# Altium footprint library Diodes Incorporated-LDO Regulator.PcbLib: 4 footprints
Each footprint in its own frame and in the unit in brackets; x right, y up, seen from the top. Pads: shape width x height; smd on the part's side, far side on the other; paste and mask are expansions set on the pad; w line width, h text height; cw(c..) or ccw(c..) is an arc to the next point about the centre after c.
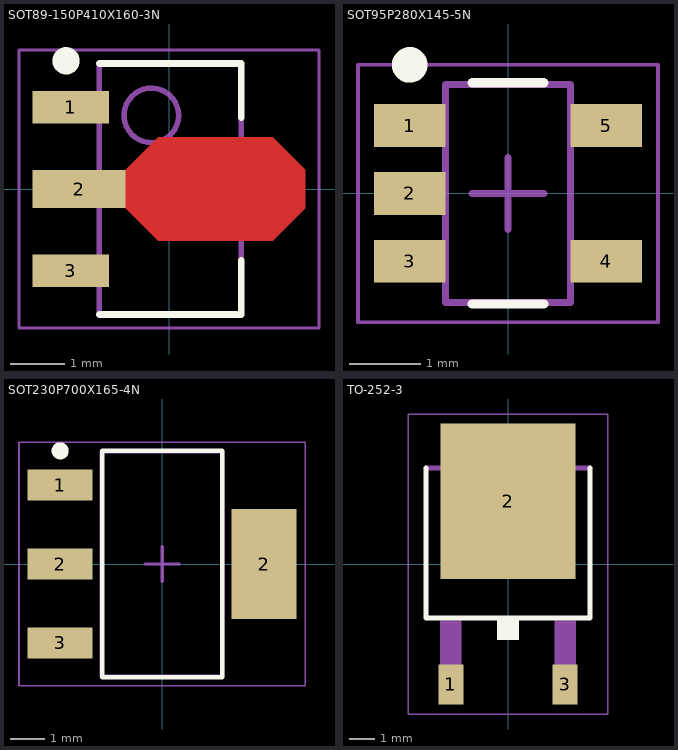
[diagram p0: the footprints below, top view; thin cyan lines are the x and y axes]

## SOT89-150P410X160-3N [mm] "SOT89, 3-Leads, Body 4,50x2,45mm, Pitch 1,50mm, Lead Span 4,1mm, IPC Medium Density"
height 1.6
pads (3):
  rect 1.4x0.6 smd: 1(-1.8,1.5) 3(-1.8,-1.5)
  rect 1.7x0.7 smd: 2(-1.65,0)
Top Layer:
  region: -1.016,0.134 -0.2,0.95 1.9,0.95 2.5,0.35 2.5,-0.35 1.9,-0.95 -0.2,-0.95 -1.016,-0.134
Top Overlay:
  circle w0.25: c-1.889,2.35 r0.125
  lines w0.127: -1.275,-2.3 1.325,-2.3 1.325,-1.314 ; -1.275,2.3 1.325,2.3 1.325,1.314
Mechanical 13:
  circle w0.1: c-0.325,1.35 r0.5
  lines w0.1: -1.275,-2.3 -1.275,2.3 1.325,2.3 1.325,-2.3 -1.275,-2.3
Mechanical 15:
  lines w0.05: -2.75,-2.55 -2.75,2.55 2.75,2.55 2.75,-2.55 -2.75,-2.55
  lines w0.1: -0.475,0 0.525,0 ; 0.025,-0.5 0.025,0.5
3D body "SOT89-150P410X160-3N.step": height 1.6, standoff 0, extent -2.2,-2.297 1.93,2.297

## SOT95P280X145-5N [mm] "SOT23, 5-Leads, Body 2,90x2,80mm, Pitch 0,95mm, IPC Medium Density"
height 1.45
pads (5):
  rect 1x0.6 smd: 1(-1.375,0.95) 2(-1.375,0) 3(-1.375,-0.95) 4(1.375,-0.95) 5(1.375,0.95)
Top Overlay:
  circle w0.25: c-1.375,1.8 r0.125
  lines w0.127: -0.5,-1.55 0.5,-1.55 ; -0.5,1.55 0.5,1.55
Mechanical 13:
  lines w0.1: -0.875,-1.525 -0.875,1.525 0.875,1.525 0.875,-1.525 -0.875,-1.525
Mechanical 15:
  lines w0.05: -2.1,-1.8 -2.1,1.8 2.1,1.8 2.1,-1.8 -2.1,-1.8
  lines w0.1: -0.5,0 0.5,0 ; 0,-0.5 0,0.5
3D body "SOT95P280X145-5N.step": height 1.45, standoff 0, extent -1.5,-1.525 1.5,1.525

## SOT230P700X165-4N [mm] "SOT223, 4-Leads, Body 6,50x7,00mm (avg), Pitch 2,30mm, IPC Medium Density"
height 1.65
pads (4):
  rect 1.9x0.9 smd: 1(-2.975,2.3) 2(-2.975,0) 3(-2.975,-2.3)
  rect 1.9x3.2 smd: 2(2.975,0)
Top Overlay:
  circle w0.25: c-2.975,3.3 r0.125
  lines w0.127: -1.75,-3.3 1.75,-3.3 1.75,3.3 -1.75,3.3 -1.75,-3.3
Mechanical 13:
  lines w0.1: -1.775,-3.275 1.775,-3.275 1.775,3.275 -1.775,3.275 -1.775,-3.275
Mechanical 15:
  lines w0.05: -4.175,-3.55 4.175,-3.55 4.175,3.55 -4.175,3.55 -4.175,-3.55
  lines w0.1: -0.5,0 0.5,0 ; 0,-0.5 0,0.5
3D body "SOT230P700X165-4N.step": height 1.65, standoff 0, extent -3.5,-3.275 3.5,3.275

## TO-252-3 [mm]
pads (3):
  rect 1x1.6 smd: 1(-2.28,-4.8) 3(2.28,-4.8)
  rect 5.4x6.2 smd: 2(0,2.5)
Top Overlay:
  rectangle: -0.432,-3.023 0.432,-2.261
  lines w0.203: -3.277,3.835 -3.277,-2.159 3.277,-2.159 3.277,3.835
Mechanical 16:
  rectangle: 1.854,-5.156 2.718,-2.261
  rectangle: -2.718,-5.156 -1.854,-2.261
  region: 0,0 0.254,0 0.254,0.254 0,0.254
  lines w0.203: -3.277,3.835 3.277,3.835 ; -2.565,3.937 2.565,3.937 2.565,4.648 2.108,5.105 -2.108,5.105 -2.565,4.648 -2.565,3.937
Mechanical 27:
  lines w0.051: -3.973,-5.983 -3.973,5.983 3.973,5.983 3.973,-5.983 -3.973,-5.983
3D body "User Library-DPAK-TO2521.step": height 2.29, standoff -0.13, extent -3.295,-4.947 3.245,4.991